# Altium footprint library SamacSys_Parts.PCBLIB: 34 footprints (part 1 of 3)
Each footprint in its own frame and in the unit in brackets; x right, y up, seen from the top. Pads: shape width x height; smd on the part's side, far side on the other; paste and mask are expansions set on the pad; w line width, h text height; cw(c..) or ccw(c..) is an arc to the next point about the centre after c.
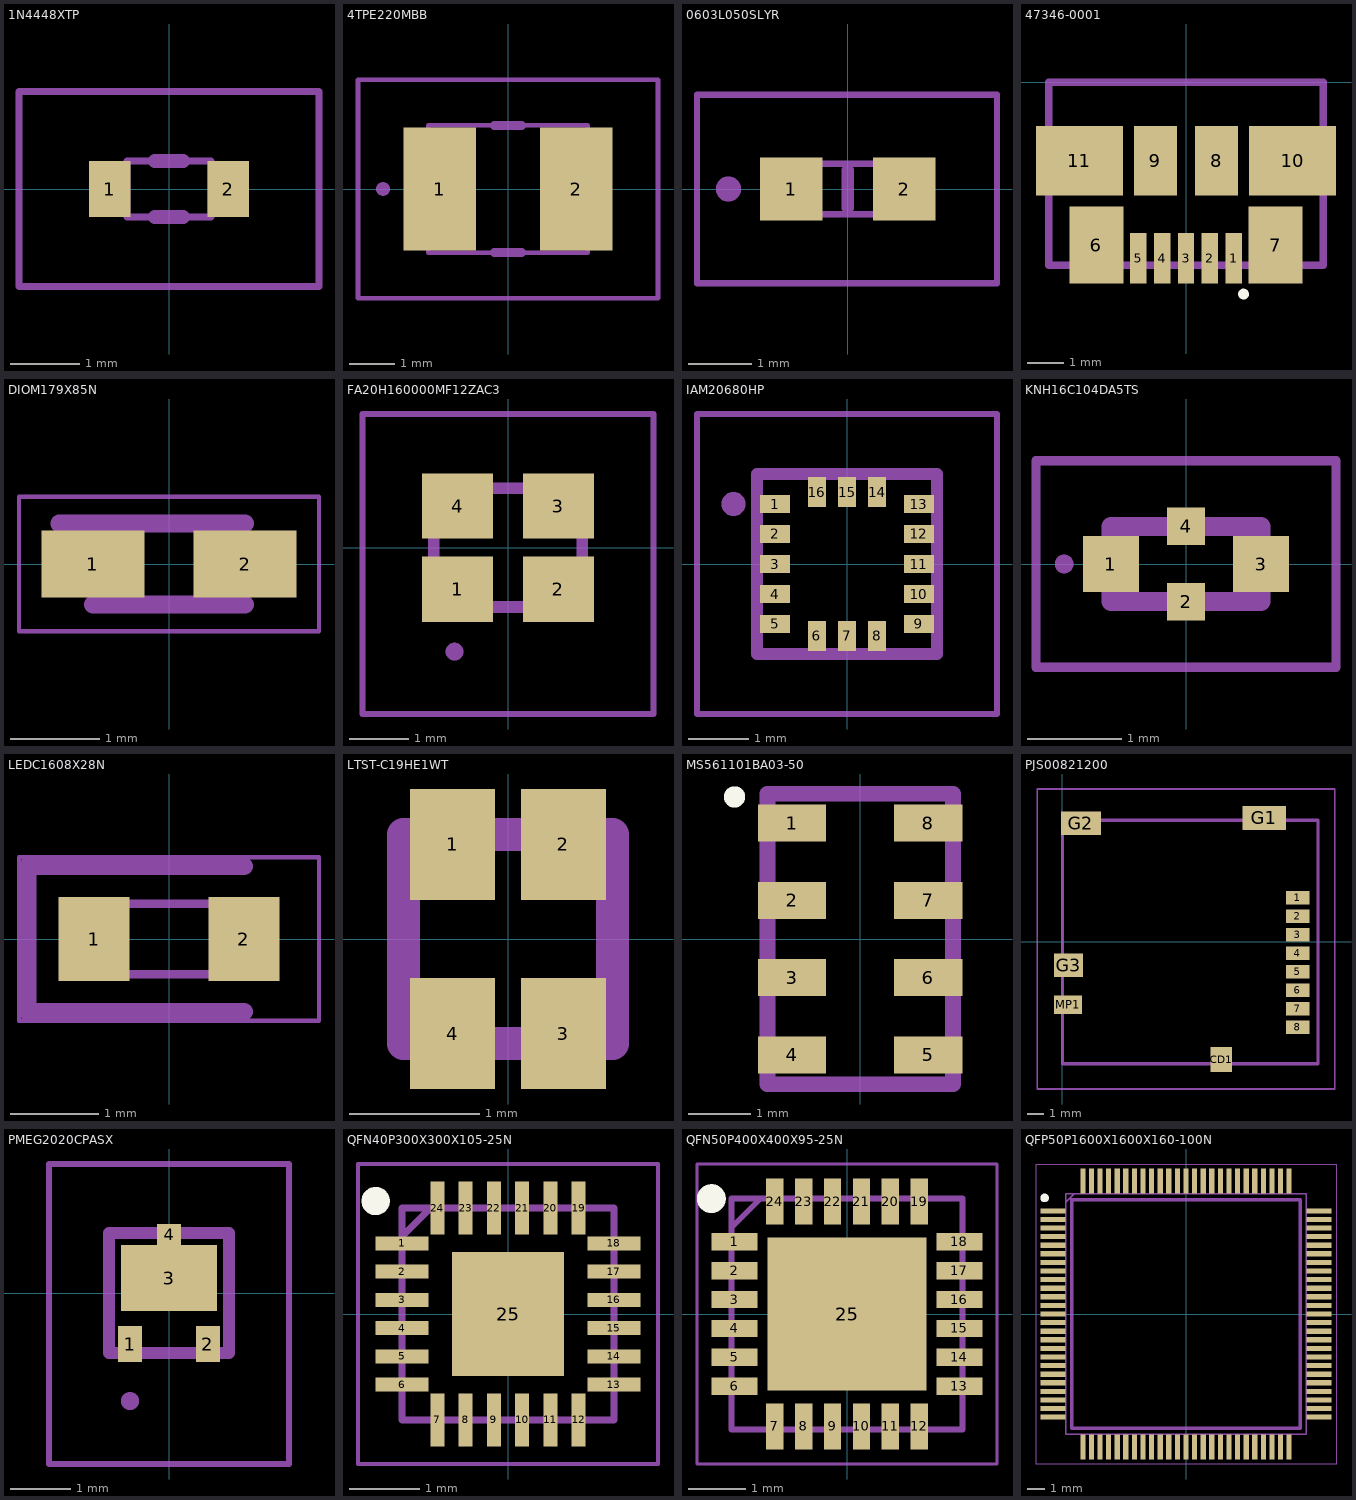
[diagram p0: the footprints below, top view; thin cyan lines are the x and y axes]

## 1N4448XTP [mil]
pads (2):
  rect 23.62x31.5 smd: 1(-33.46,0) 2(33.46,0)
tDocu:
  lines w3.94: -84.65,-55.12 84.65,-55.12 84.65,55.12 -84.65,55.12 -84.65,-55.12 ; -23.62,-15.75 23.62,-15.75 23.62,15.75 -23.62,15.75 -23.62,-15.75
tPlace:
  lines w7.87: -7.87,-15.75 7.87,-15.75 ; -7.87,15.75 7.87,15.75

## 4TPE220MBB [mm]
pads (2):
  rect 1.6x2.7 smd: 1(-1.5,0) 2(1.5,0)
tDocu:
  lines w0.1: -3.3,-2.4 3.3,-2.4 3.3,2.4 -3.3,2.4 -3.3,-2.4 ; -1.75,-1.4 1.75,-1.4 1.75,1.4 -1.75,1.4 -1.75,-1.4
tPlace:
  lines w0.2: -0.3,-1.4 0.3,-1.4 ; -0.3,1.4 0.3,1.4 ; -2.8,0 -2.8,0 ; -2.8,0 ccw(c-2.75,0) -2.7,0 ; -2.8,0 cw(c-2.75,0) -2.7,0 ; -2.8,0 -2.8,0 ; -2.8,0 ccw(c-2.75,0) -2.7,0 ; -2.7,0 -2.7,0

## 0603L050SLYR [mm]
pads (2):
  rect 1x1 smd: 1(-0.9,0) 2(0.9,0)
tDocu:
  lines w0.1: -2.4,-1.5 2.375,-1.5 2.375,1.5 -2.4,1.5 -2.4,-1.5 ; -0.8,-0.4 0.8,-0.4 0.8,0.4 -0.8,0.4 -0.8,-0.4
tPlace:
  lines w0.2: 0,-0.3 0,0.3 ; -1.9,-0.1 cw(c-1.9,0) -1.9,0.1 ; -1.9,-0.1 -1.9,-0.1 ; -1.9,-0.1 ccw(c-1.9,0) -1.9,0.1 ; -1.9,0.1 -1.9,0.1

## 47346-0001 [mm]
pads (11):
  rect 0.45x1.38 smd: 1(1.3,-4.81) 2(0.65,-4.81) 3(0,-4.81) 4(-0.65,-4.81) 5(-1.3,-4.81)
  rect 1.475x2.1 smd: 6(-2.453,-4.45) 7(2.453,-4.45)
  rect 1.175x1.9 smd: 8(0.837,-2.15) 9(-0.837,-2.15)
  rect 2.375x1.9 smd: 10(2.913,-2.15) 11(-2.913,-2.15)
Top Overlay:
  circle w0.2: c1.572,-5.79 r0.046
tDocu:
  lines w0.2: -3.75,-5 3.75,-5 3.75,0 -3.75,0 -3.75,-5
tPlace:
  lines w0.2: -3.75,-5 -3.75,-3.373 ; -3.75,0 3.75,0 ; 3.75,-5 3.75,-3.373

## DIOM179X85N [mm]
pads (2):
  rect 1.15x0.75 smd: 1(-0.85,0) 2(0.85,0)
tDocu:
  lines w0.05: -1.675,-0.75 1.675,-0.75 1.675,0.75 -1.675,0.75 -1.675,-0.75
  lines w0.1: -0.85,0.075 -0.475,0.45 ; -0.85,-0.45 0.85,-0.45 0.85,0.45 -0.85,0.45 -0.85,-0.45
tPlace:
  lines w0.2: -1.225,0.45 0.85,0.45 ; -0.85,-0.45 0.85,-0.45

## FA20H160000MF12ZAC3 [mm]
pads (4):
  rect 1.2x1.1 smd: 1(-0.85,-0.7) 2(0.85,-0.7) 3(0.85,0.7) 4(-0.85,0.7)
tDocu:
  lines w0.1: -2.45,-2.8 2.45,-2.8 2.45,2.25 -2.45,2.25 -2.45,-2.8
  lines w0.2: -1.25,-1 1.25,-1 1.25,1 -1.25,1 -1.25,-1
tPlace:
  lines w0.2: -0.9,-1.8 -0.9,-1.8 ; -0.9,-1.8 ccw(c-0.9,-1.75) -0.9,-1.7 ; -0.9,-1.8 cw(c-0.9,-1.75) -0.9,-1.7 ; -0.9,-1.8 -0.9,-1.8 ; -0.9,-1.8 ccw(c-0.9,-1.75) -0.9,-1.7 ; -0.9,-1.7 -0.9,-1.7

## IAM20680HP [mm]
pads (16):
  rect 0.5x0.3 smd: 1(-1.2,1) 2(-1.2,0.5) 3(-1.2,0) 4(-1.2,-0.5) 5(-1.2,-1) 9(1.2,-1) 10(1.2,-0.5) 11(1.2,0) 12(1.2,0.5) 13(1.2,1)
  rect 0.3x0.5 smd: 6(-0.5,-1.2) 7(0,-1.2) 8(0.5,-1.2) 14(0.5,1.2) 15(0,1.2) 16(-0.5,1.2)
tDocu:
  lines w0.1: -2.5,-2.5 2.5,-2.5 2.5,2.5 -2.5,2.5 -2.5,-2.5
  lines w0.2: -1.5,-1.5 1.5,-1.5 1.5,1.5 -1.5,1.5 -1.5,-1.5
tPlace:
  lines w0.2: -1.891,0.9 cw(c-1.891,1) -1.891,1.1 ; -1.891,0.9 -1.891,0.9 ; -1.891,0.9 ccw(c-1.891,1) -1.891,1.1 ; -1.891,1.1 -1.891,1.1

## KNH16C104DA5TS [mil]
pads (4):
  rect 23.62x23.62 smd: 1(-31.5,0) 3(31.5,0)
  rect 15.75x15.75 smd: 2(0,-15.75) 4(0,15.75)
tDocu:
  lines w3.94: -62.99,-43.31 62.99,-43.31 62.99,43.31 -62.99,43.31 -62.99,-43.31
  lines w7.87: -31.5,-15.75 31.5,-15.75 31.5,15.75 -31.5,15.75 -31.5,-15.75
tPlace:
  lines w3.94: -51.18,-1.97 cw(c-51.18,0) -51.18,1.97 ; -51.18,-1.97 -51.18,-1.97 ; -51.18,-1.97 ccw(c-51.18,0) -51.18,1.97 ; -51.18,1.97 -51.18,1.97

## LEDC1608X28N [mil]
pads (2):
  rect 31.5x37.4 smd: 1(-33.46,0) 2(33.46,0)
tDocu:
  lines w1.97: -66.93,-36.42 66.93,-36.42 66.93,36.42 -66.93,36.42 -66.93,-36.42
  lines w3.94: -31.5,5.24 -20.98,15.75 ; -31.5,-15.75 31.5,-15.75 31.5,15.75 -31.5,15.75 -31.5,-15.75
tPlace:
  lines w7.87: 33.46,-32.48 -62.99,-32.48 -62.99,32.48 33.46,32.48

## LTST-C19HE1WT [mm]
pads (4):
  rect 0.65x0.85 smd: 1(-0.425,0.725) 2(0.425,0.725) 3(0.425,-0.725) 4(-0.425,-0.725)
tDocu:
  lines w0.254: -0.8,-0.8 0.8,-0.8 0.8,0.8 -0.8,0.8 -0.8,-0.8

## MS561101BA03-50 [mm]
pads (8):
  rect 1.1x0.6 smd: 1(-1.1,1.875) 2(-1.1,0.625) 3(-1.1,-0.625) 4(-1.1,-1.875) 5(1.1,-1.875) 6(1.1,-0.625) 7(1.1,0.625) 8(1.1,1.875)
Top Overlay:
  circle w0.254: c-2.032,2.297 r0.045
tDocu:
  lines w0.254: -1.5,-2.35 1.5,-2.35 1.5,2.35 -1.5,2.35 -1.5,-2.35
tPlace:
  lines w0.254: -1.5,-2.35 1.5,-2.35 ; -1.5,2.35 1.5,2.35

## PJS00821200 [mil]
pads (13):
  rect 55.12x31.5 smd: 1(551.18,103.35) 2(551.18,60.04) 3(551.18,16.73) 4(551.18,-26.57) 5(551.18,-69.88) 6(551.18,-113.19) 7(551.18,-156.5) 8(551.18,-199.8)
  rect 51.18x59.06 smd: CD1(372.05,-275.59)
  rect 102.36x57.09 smd: G1(472.44,290.35)
  rect 94.49x55.12 smd: G2(43.31,277.56)
  rect 67.72x55.12 smd: G3(14.17,-55.12)
  rect 65.75x43.31 smd: MP1(13.19,-147.64)
tDocu:
  lines w3.94: -59.06,-344.49 637.8,-344.49 637.8,358.27 -59.06,358.27 -59.06,-344.49
  lines w7.87: 0,-285.43 598.43,-285.43 598.43,285.43 0,285.43 0,-285.43
tPlace:
  lines w3.94: 0,-196.85 0,-285.43 314.96,-285.43 334.65,-285.43 ; 0,-19.69 0,236.22 ; 106.3,285.43 393.7,285.43 ; 374.02,285.43 393.7,285.43 ; 405.51,285.43 393.7,285.43 ; 413.39,-285.43 598.43,-285.43 598.43,285.43 547.24,285.43

## PMEG2020CPASX [mm]
pads (4):
  rect 0.4x0.6 smd: 1(-0.65,-0.85) 2(0.65,-0.85)
  rect 1.6x1.1 smd: 3(0,0.25)
  rect 0.4x0.35 smd: 4(0,0.975)
tDocu:
  lines w0.1: -2,-2.85 2,-2.85 2,2.15 -2,2.15 -2,-2.85
  lines w0.2: -1,-1 1,-1 1,1 -1,1 -1,-1
tPlace:
  lines w0.2: -0.7,-1.8 -0.7,-1.8 ; -0.7,-1.8 ccw(c-0.65,-1.8) -0.6,-1.8 ; -0.7,-1.8 cw(c-0.65,-1.8) -0.6,-1.8 ; -0.7,-1.8 -0.7,-1.8 ; -0.7,-1.8 ccw(c-0.65,-1.8) -0.6,-1.8 ; -0.6,-1.8 -0.6,-1.8

## QFN40P300X300X105-25N [mm]
pads (25):
  rect 0.75x0.2 smd: 1(-1.5,1) 2(-1.5,0.6) 3(-1.5,0.2) 4(-1.5,-0.2) 5(-1.5,-0.6) 6(-1.5,-1) 13(1.5,-1) 14(1.5,-0.6) 15(1.5,-0.2) 16(1.5,0.2) 17(1.5,0.6) 18(1.5,1)
  rect 0.2x0.75 smd: 7(-1,-1.5) 8(-0.6,-1.5) 9(-0.2,-1.5) 10(0.2,-1.5) 11(0.6,-1.5) 12(1,-1.5) 19(1,1.5) 20(0.6,1.5) 21(0.2,1.5) 22(-0.2,1.5) 23(-0.6,1.5) 24(-1,1.5)
  rect 1.59x1.75 smd: 25(0,0)
Top Overlay:
  circle w0.2: c-1.875,1.6 r0.1
tDocu:
  lines w0.05: -2.125,-2.125 2.125,-2.125 2.125,2.125 -2.125,2.125 -2.125,-2.125
  lines w0.1: -1.5,1.1 -1.1,1.5 ; -1.5,-1.5 1.5,-1.5 1.5,1.5 -1.5,1.5 -1.5,-1.5

## QFN50P400X400X95-25N [mil]
pads (25):
  rect 31.5x11.81 smd: 1(-76.77,49.21) 2(-76.77,29.53) 3(-76.77,9.84) 4(-76.77,-9.84) 5(-76.77,-29.53) 6(-76.77,-49.21) 13(76.77,-49.21) 14(76.77,-29.53) 15(76.77,-9.84) 16(76.77,9.84) 17(76.77,29.53) 18(76.77,49.21)
  rect 11.81x31.5 smd: 7(-49.21,-76.77) 8(-29.53,-76.77) 9(-9.84,-76.77) 10(9.84,-76.77) 11(29.53,-76.77) 12(49.21,-76.77) 19(49.21,76.77) 20(29.53,76.77) 21(9.84,76.77) 22(-9.84,76.77) 23(-29.53,76.77) 24(-49.21,76.77)
  rect 108.27x104.33 smd: 25(0,0)
Top Overlay:
  circle w9.84: c-92.52,78.74 r4.92
tDocu:
  lines w1.97: -102.36,-102.36 102.36,-102.36 102.36,102.36 -102.36,102.36 -102.36,-102.36
  lines w3.94: -78.74,59.06 -59.06,78.74 ; -78.74,-78.74 78.74,-78.74 78.74,78.74 -78.74,78.74 -78.74,-78.74

## QFP50P1600X1600X160-100N [mm]
pads (100):
  rect 1.475x0.3 smd: 1(-7.738,6) 2(-7.738,5.5) 3(-7.738,5) 4(-7.738,4.5) 5(-7.738,4) 6(-7.738,3.5) 7(-7.738,3) 8(-7.738,2.5) 9(-7.738,2) 10(-7.738,1.5) 11(-7.738,1) 12(-7.738,0.5) 13(-7.738,0) 14(-7.738,-0.5) 15(-7.738,-1) 16(-7.738,-1.5) 17(-7.738,-2) 18(-7.738,-2.5) 19(-7.738,-3) 20(-7.738,-3.5) 21(-7.738,-4) 22(-7.738,-4.5) 23(-7.738,-5) 24(-7.738,-5.5) 25(-7.738,-6) 51(7.738,-6) 52(7.738,-5.5) 53(7.738,-5) 54(7.738,-4.5) 55(7.738,-4) 56(7.738,-3.5) 57(7.738,-3) 58(7.738,-2.5) 59(7.738,-2) 60(7.738,-1.5) 61(7.738,-1) 62(7.738,-0.5) 63(7.738,0) 64(7.738,0.5) 65(7.738,1) 66(7.738,1.5) 67(7.738,2) 68(7.738,2.5) 69(7.738,3) 70(7.738,3.5) 71(7.738,4) 72(7.738,4.5) 73(7.738,5) 74(7.738,5.5) 75(7.738,6)
  rect 0.3x1.475 smd: 26(-6,-7.738) 27(-5.5,-7.738) 28(-5,-7.738) 29(-4.5,-7.738) 30(-4,-7.738) 31(-3.5,-7.738) 32(-3,-7.738) 33(-2.5,-7.738) 34(-2,-7.738) 35(-1.5,-7.738) 36(-1,-7.738) 37(-0.5,-7.738) 38(0,-7.738) 39(0.5,-7.738) 40(1,-7.738) 41(1.5,-7.738) 42(2,-7.738) 43(2.5,-7.738) 44(3,-7.738) 45(3.5,-7.738) 46(4,-7.738) 47(4.5,-7.738) 48(5,-7.738) 49(5.5,-7.738) 50(6,-7.738) 76(6,7.738) 77(5.5,7.738) 78(5,7.738) 79(4.5,7.738) 80(4,7.738) 81(3.5,7.738) 82(3,7.738) 83(2.5,7.738) 84(2,7.738) 85(1.5,7.738) 86(1,7.738) 87(0.5,7.738) 88(0,7.738) 89(-0.5,7.738) 90(-1,7.738) 91(-1.5,7.738) 92(-2,7.738) 93(-2.5,7.738) 94(-3,7.738) 95(-3.5,7.738) 96(-4,7.738) 97(-4.5,7.738) 98(-5,7.738) 99(-5.5,7.738) 100(-6,7.738)
Top Overlay:
  circle w0.25: c-8.225,6.75 r0.125
tDocu:
  lines w0.05: -8.725,-8.725 8.725,-8.725 8.725,8.725 -8.725,8.725 -8.725,-8.725
  lines w0.1: -7,6.5 -6.5,7 ; -7,-7 7,-7 7,7 -7,7 -7,-7
tPlace:
  lines w0.2: -6.65,-6.65 6.65,-6.65 6.65,6.65 -6.65,6.65 -6.65,-6.65